# Altium footprint library 28C64AXX-XXXP.PcbLib: 1 footprints
Each footprint in its own frame and in the unit in brackets; x right, y up, seen from the top. Pads: shape width x height; smd on the part's side, far side on the other; paste and mask are expansions set on the pad; w line width, h text height; cw(c..) or ccw(c..) is an arc to the next point about the centre after c.
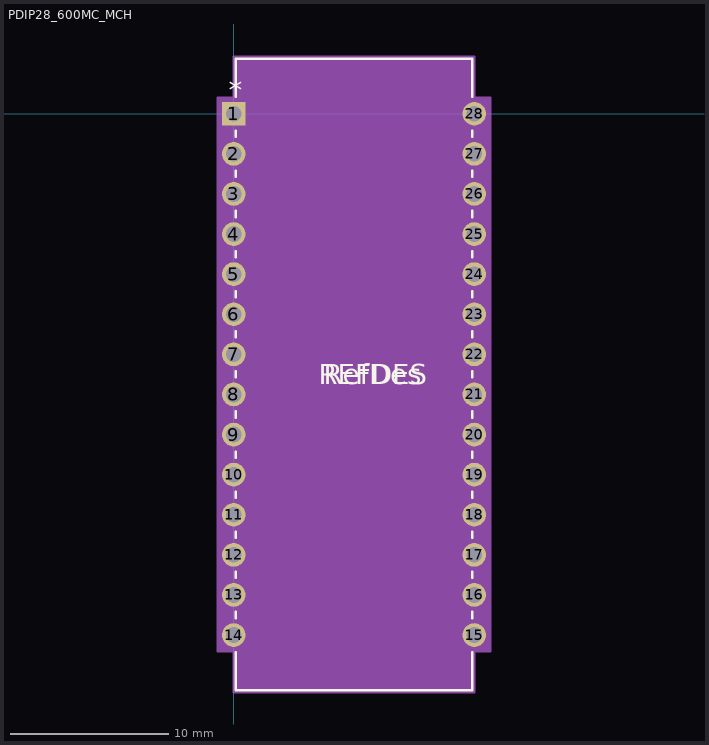
[diagram p0: the footprint, top view; thin cyan lines are the x and y axes]

## PDIP28_600MC_MCH [mil]
pads (28):
  rect 59x59 / inner round 60 / far side rect 59x59 hole 39 paste-29.5 mask+0: 1(0,0)
  round 59 / inner round 60 / far side round 59 hole 39 paste-29.5 mask+0: 2(0,-100) 3(0,-200) 4(0,-300) 5(0,-400) 6(0,-500) 7(0,-600) 8(0,-700) 9(0,-800) 10(0,-900) 11(0,-1000) 12(0,-1100) 13(0,-1200) 14(0,-1300) 15(600,-1300) 16(600,-1200) 17(600,-1100) 18(600,-1000) 19(600,-900) 20(600,-800) 21(600,-700) 22(600,-600) 23(600,-500) 24(600,-400) 25(600,-300) 26(600,-200) 27(600,-100) 28(600,0)
Top Overlay:
  lines w6: 5,-1342.31 5,-1437.5 595,-1437.5 595,-1342.31 ; 5,-1257.69 5,-1242.31 ; 5,-1157.69 5,-1142.31 ; 5,-1057.69 5,-1042.31 ; 5,-957.69 5,-942.31 ; 5,-857.69 5,-842.31 ; 5,-757.69 5,-742.31 ; 5,-657.69 5,-642.31 ; 5,-557.69 5,-542.31 ; 5,-457.69 5,-442.31 ; 5,-357.69 5,-342.31 ; 5,-257.69 5,-242.31 ; 5,-157.69 5,-142.31 ; 5,-57.69 5,-42.6 ; 5,42.6 5,137.5 595,137.5 595,42.31 ; 595,-1257.69 595,-1242.31 ; 595,-1157.69 595,-1142.31 ; 595,-1057.69 595,-1042.31 ; 595,-957.69 595,-942.31 ; 595,-857.69 595,-842.31 ; 595,-757.69 595,-742.31 ; 595,-657.69 595,-642.31 ; 595,-557.69 595,-542.31 ; 595,-457.69 595,-442.31 ; 595,-357.69 595,-342.31 ; 595,-257.69 595,-242.31 ; 595,-157.69 595,-142.31 ; 595,-57.69 595,-42.31
  text "*" at -12.5,34.5 h50
  text "RefDes" at 225,-675 h50
  text "REFDES" at 212.5,-675 h50
Mechanical 13:
  lines w0: 288,132.5 ccw(c300,132.5) 312,132.5
  lines w1: -19.5,-1319.5 -19.5,-1280.5 10,-1280.5 10,-1319.5 -19.5,-1319.5 ; -19.5,-1219.5 -19.5,-1180.5 10,-1180.5 10,-1219.5 -19.5,-1219.5 ; -19.5,-1119.5 -19.5,-1080.5 10,-1080.5 10,-1119.5 -19.5,-1119.5 ; -19.5,-1019.5 -19.5,-980.5 10,-980.5 10,-1019.5 -19.5,-1019.5 ; -19.5,-919.5 -19.5,-880.5 10,-880.5 10,-919.5 -19.5,-919.5 ; -19.5,-819.5 -19.5,-780.5 10,-780.5 10,-819.5 -19.5,-819.5 ; -19.5,-719.5 -19.5,-680.5 10,-680.5 10,-719.5 -19.5,-719.5 ; -19.5,-619.5 -19.5,-580.5 10,-580.5 10,-619.5 -19.5,-619.5 ; -19.5,-519.5 -19.5,-480.5 10,-480.5 10,-519.5 -19.5,-519.5 ; -19.5,-419.5 -19.5,-380.5 10,-380.5 10,-419.5 -19.5,-419.5 ; -19.5,-319.5 -19.5,-280.5 10,-280.5 10,-319.5 -19.5,-319.5 ; -19.5,-219.5 -19.5,-180.5 10,-180.5 10,-219.5 -19.5,-219.5 ; -19.5,-119.5 -19.5,-80.5 10,-80.5 10,-119.5 -19.5,-119.5 ; -19.5,-19.5 -19.5,19.5 10,19.5 10,-19.5 -19.5,-19.5 ; 10,-1432.5 590,-1432.5 590,132.5 10,132.5 10,-1432.5 ; 590,-1319.5 590,-1280.5 619.5,-1280.5 619.5,-1319.5 590,-1319.5 ; 590,-1219.5 590,-1180.5 619.5,-1180.5 619.5,-1219.5 590,-1219.5 ; 590,-1119.5 590,-1080.5 619.5,-1080.5 619.5,-1119.5 590,-1119.5 ; 590,-1019.5 590,-980.5 619.5,-980.5 619.5,-1019.5 590,-1019.5 ; 590,-919.5 590,-880.5 619.5,-880.5 619.5,-919.5 590,-919.5 ; 590,-819.5 590,-780.5 619.5,-780.5 619.5,-819.5 590,-819.5 ; 590,-719.5 590,-680.5 619.5,-680.5 619.5,-719.5 590,-719.5 ; 590,-619.5 590,-580.5 619.5,-580.5 619.5,-619.5 590,-619.5 ; 590,-519.5 590,-480.5 619.5,-480.5 619.5,-519.5 590,-519.5 ; 590,-419.5 590,-380.5 619.5,-380.5 619.5,-419.5 590,-419.5 ; 590,-319.5 590,-280.5 619.5,-280.5 619.5,-319.5 590,-319.5 ; 590,-219.5 590,-180.5 619.5,-180.5 619.5,-219.5 590,-219.5 ; 590,-119.5 590,-80.5 619.5,-80.5 619.5,-119.5 590,-119.5 ; 590,-19.5 590,19.5 619.5,19.5 619.5,-19.5 590,-19.5
  text "*" at 7.5,-25 h50
  text "RefDes2" at 212.5,-675 h50
Mechanical 15:
  region: 600,-1340 639.5,-1340 639.5,40 600,40 600,142.5 0,142.5 0,40 -39.5,40 -39.5,-1340 0,-1340 0,-1442.5 600,-1442.5
  lines w6: -39.5,-1340 -39.5,40 0,40 0,142.5 600,142.5 600,40 639.5,40 639.5,-1340 600,-1340 600,-1442.5 0,-1442.5 0,-1340 -39.5,-1340
3D body "PDIP28_600MC_MCH.step": height 255.12, standoff -100, extent -5,-1432.52 615,132.52